# Altium schematic symbol library SKY65378-11.Schlib: 1 symbol
Pins are listed as number, name and electrical type; pins without a type are passive.

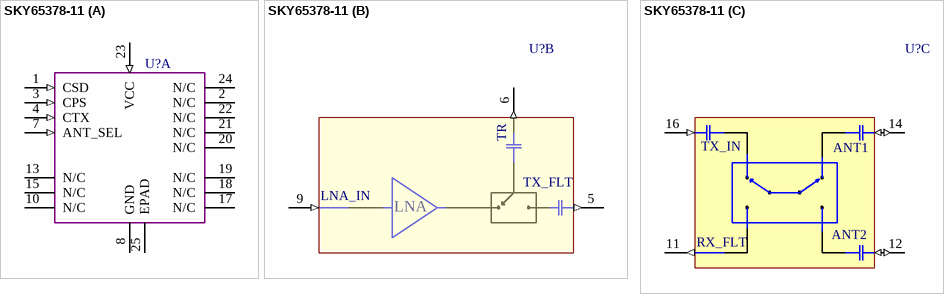
[diagram p0: symbol SKY65378-11]

## SKY65378-11
designator U?  (value not drawn)
part A pins: 1 CSD (in), 2 N/C, 3 CPS (in), 4 CTX (in), 7 ANT_SEL (in), 8 GND, 10 N/C, 13 N/C, 15 N/C, 17 N/C, 18 N/C, 19 N/C, 20 N/C, 21 N/C, 22 N/C, 23 VCC (in), 24 N/C, 25 EPAD
part B pins: 5 TX_FLT (out), 6 TR (out), 9 LNA_IN (in)
part C pins: 11 RX_FLT (out), 12 ANT2 (io), 14 ANT1 (io), 16 TX_IN (in)
2 alternate drawings of the same symbol
part B text: LNA